# Altium footprint library HAL_2.PcbLib: 23 footprints (part 2 of 2)
Each footprint in its own frame and in the unit in brackets; x right, y up, seen from the top. Pads: shape width x height; smd on the part's side, far side on the other; paste and mask are expansions set on the pad; w line width, h text height; cw(c..) or ccw(c..) is an arc to the next point about the centre after c.
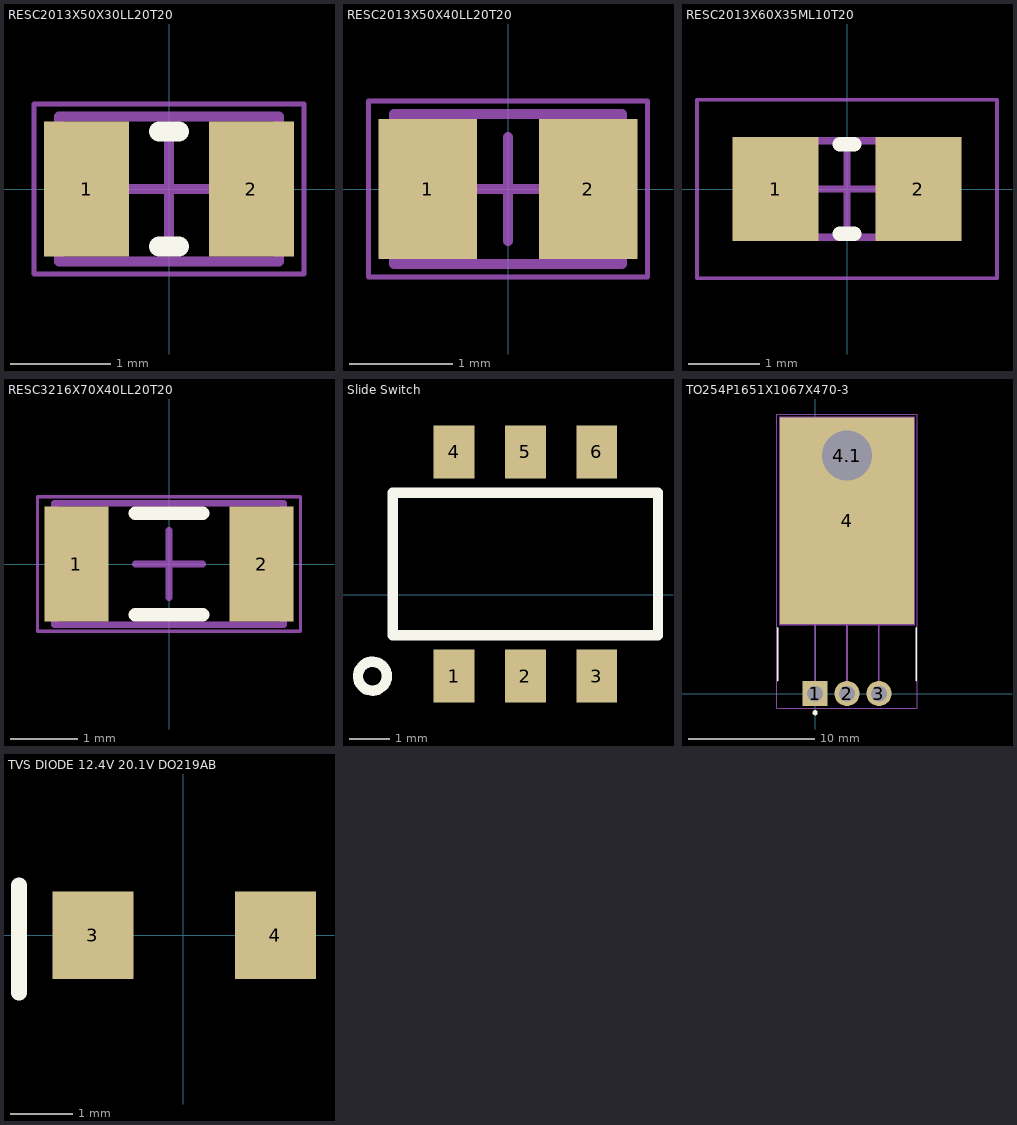
[diagram p1: the footprints below, top view; thin cyan lines are the x and y axes]

## RESC2013X50X30LL20T20 [mm]
pads (2):
  rect 0.85x1.35 smd: 1(-0.825,0) 2(0.825,0)
Top Overlay:
  lines w0.2: -0.1,-0.575 0.1,-0.575 ; -0.1,0.575 0.1,0.575
Mechanical 13:
  lines w0.1: -1.1,-0.725 1.1,-0.725 1.1,0.725 -1.1,0.725 -1.1,-0.725
Mechanical 15:
  lines w0.05: -1.35,-0.85 1.35,-0.85 1.35,0.85 -1.35,0.85 -1.35,-0.85
  lines w0.1: -0.5,0 0.5,0 ; 0,-0.5 0,0.5
3D body: height 0.5, standoff 0, extent 0.8,-0.725 1.1,0.725
3D body: height 0.5, standoff 0, extent -1.1,-0.725 -0.8,0.725
3D body: height 0.5, standoff 0, extent -0.8,-0.725 0.8,0.725

## RESC2013X50X40LL20T20 [mm]
pads (2):
  rect 0.95x1.35 smd: 1(-0.775,0) 2(0.775,0)
Mechanical 13:
  lines w0.1: -1.1,-0.725 -1.1,0.725 1.1,0.725 1.1,-0.725 -1.1,-0.725
Mechanical 15:
  lines w0.05: -1.35,-0.85 -1.35,0.85 1.35,0.85 1.35,-0.85 -1.35,-0.85
  lines w0.1: -0.5,0 0.5,0 ; 0,-0.5 0,0.5
3D body: height 0.5, standoff 0, extent -0.7,-0.725 0.7,0.725
3D body: height 0.5, standoff 0, extent -1.1,-0.725 -0.7,0.725
3D body: height 0.5, standoff 0, extent 0.7,-0.725 1.1,0.725

## RESC2013X60X35ML10T20 [mm]
pads (2):
  rect 1.2x1.45 smd: 1(-1,0) 2(1,0)
Top Overlay:
  lines w0.2: -0.1,-0.625 0.1,-0.625 ; -0.1,0.625 0.1,0.625
Mechanical 13:
  lines w0.1: -1.05,-0.675 1.05,-0.675 1.05,0.675 -1.05,0.675 -1.05,-0.675
Mechanical 15:
  lines w0.05: -2.1,-1.25 2.1,-1.25 2.1,1.25 -2.1,1.25 -2.1,-1.25
  lines w0.1: -0.5,0 0.5,0 ; 0,-0.5 0,0.5
3D body: height 0.6, standoff 0, extent 0.7,-0.675 1.05,0.675
3D body: height 0.6, standoff 0, extent -1.05,-0.675 -0.7,0.675
3D body: height 0.6, standoff 0, extent -0.7,-0.675 0.7,0.675

## RESC3216X70X40LL20T20 [mm]
pads (2):
  rect 0.95x1.7 smd: 1(-1.375,0) 2(1.375,0)
Top Overlay:
  lines w0.2: -0.5,-0.75 0.5,-0.75 ; -0.5,0.75 0.5,0.75
Mechanical 13:
  lines w0.1: -1.7,-0.9 1.7,-0.9 1.7,0.9 -1.7,0.9 -1.7,-0.9
Mechanical 15:
  lines w0.05: -1.95,-1 1.95,-1 1.95,1 -1.95,1 -1.95,-1
  lines w0.1: -0.5,0 0.5,0 ; 0,-0.5 0,0.5
3D body: height 0.7, standoff 0, extent 1.3,-0.9 1.7,0.9
3D body: height 0.7, standoff 0, extent -1.7,-0.9 -1.3,0.9
3D body: height 0.7, standoff 0, extent -1.3,-0.9 1.3,0.9

## Slide Switch [mm]
pads (6):
  rect 1x1.3 smd: 1(-7,-2) 2(-5.25,-2) 3(-3.5,-2) 4(-7,3.5) 5(-5.25,3.5) 6(-3.5,3.5)
Top Overlay:
  circle w0.254: c-9,-2 r0.354
  lines w0.254: -8.5,-1 -2,-1 -2,2.5 -8.5,2.5 -8.5,-1

## TO254P1651X1067X470-3 [mm]
pads (5):
  rect 2x2 hole 1.24: 1(0,0)
  round 2 hole 1.24: 2(2.54,0) 3(5.08,0)
  rect 10.67x16.43 smd: 4(2.54,13.75)
  round 6 hole 4: 4.1(2.54,18.925)
Top Overlay:
  circle w0.2: c0,-1.524 r0.1
  lines w0.127: -2.98,1.04 -2.98,5.22 ; 8.06,1.04 8.06,5.22
Mechanical 13:
  lines w0.127: 0,0.93 0,5.46 ; 2.54,0.93 2.54,5.46 ; 5.08,0.93 5.08,5.46 ; -2.795,5.465 7.875,5.465 7.875,21.975 -2.795,21.975 -2.795,5.465
Mechanical 15:
  lines w0.05: -3.05,-1.175 -3.05,22.225 8.13,22.225 8.13,-1.175 -3.05,-1.175
3D body "step_temp.STEP": height 19.65, standoff -9.22, extent -5.08,0 5.08,4.55

## TVS DIODE 12.4V 20.1V DO219AB [mil]
pads (2):
  rect 51x55 smd: 3(-57,0) 4(58,0)
Top Overlay:
  lines w10: -103.54,-36.22 -103.54,31.5